# Altium footprint library DG141V-2.54-10P.PcbLib: 1 footprints
Each footprint in its own frame and in the unit in brackets; x right, y up, seen from the top. Pads: shape width x height; smd on the part's side, far side on the other; paste and mask are expansions set on the pad; w line width, h text height; cw(c..) or ccw(c..) is an arc to the next point about the centre after c.
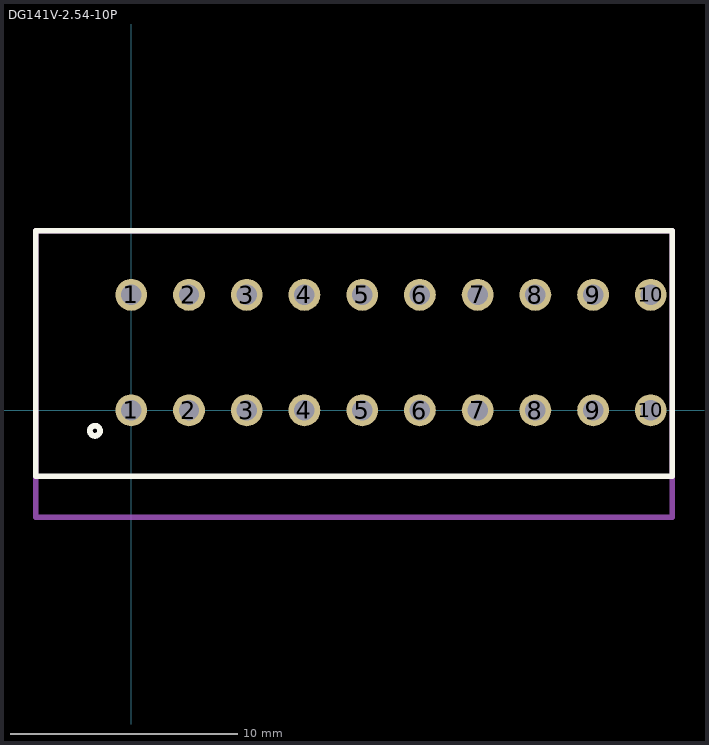
[diagram p0: the footprint, top view; thin cyan lines are the x and y axes]

## DG141V-2.54-10P [mm]
pads (20):
  round 1.4 hole 0.9: 1(0,0) 1(0,5.08) 2(2.54,0) 2(2.54,5.08) 3(5.08,0) 3(5.08,5.08) 4(7.62,0) 4(7.62,5.08) 5(10.16,0) 5(10.16,5.08) 6(12.7,0) 6(12.7,5.08) 7(15.24,0) 7(15.24,5.08) 8(17.78,0) 8(17.78,5.08) 9(20.32,0) 9(20.32,5.08) 10(22.86,0) 10(22.86,5.08)
Top Overlay:
  circle w0.254: c-1.6,-0.9 r0.224
  lines w0.254: -4.2,-2.9 -4.2,7.9 23.8,7.9 23.8,-2.9 -4.2,-2.9
Mechanical 13:
  lines w0.254: -4.2,-4.7 -4.2,7.9 23.8,7.9 23.8,-4.7 -4.2,-4.7
3D body "DG141V-2.54-10P-1Y-00A&Z(H).stp": height 13.6, standoff -3.5, extent -4.18,-4.72 23.76,7.88